# EAGLE library part PIC18F1823 (library Oles komponentbibliotek)
14-Pin Flash Microcontroller
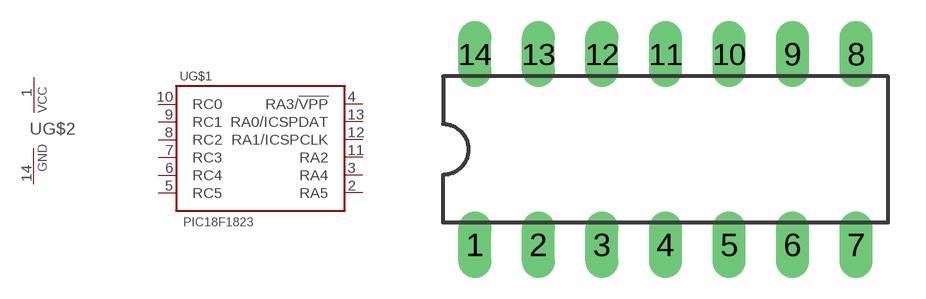
[diagram p24: symbol with the pads of DIL14; footprint DIL14]

Designator prefix -; gates G$1=PIC16F1823 G$2=PWRN

## PIC18F1823  [DIL14]
1  G$2:VCC  pwr
2  G$1:RA5
3  G$1:RA4
4  G$1:RA3/!VPP
5  G$1:RC5
6  G$1:RC4
7  G$1:RC3
8  G$1:RC2
9  G$1:RC1
10  G$1:RC0
11  G$1:RA2
12  G$1:RA1/ICSPCLK
13  G$1:RA0/ICSPDAT
14  G$2:GND  pwr

## Footprint DIL14 (pad centres in mm)
Dual In Line Package
drill 0.813 long: 1 -7.62,-3.81; 2 -5.08,-3.81; 3 -2.54,-3.81; 4 0,-3.81; 5 2.54,-3.81; 6 5.08,-3.81; 7 7.62,-3.81; 8 7.62,3.81; 9 5.08,3.81; 10 2.54,3.81; 11 0,3.81; 12 -2.54,3.81; 13 -5.08,3.81; 14 -7.62,3.81